# EAGLE library part CAT5113 (library cat5113)
ON Semi: CAT5113 100‐tap Non-volatile, 10nA, 100kΩ, Digital Potentiometer (POT) The CAT5113 is a single digital POT designed as an electronic replacement for mechanical potentiometers. Ideal for automated adjustments on high volume production lines, they are also well suited for applications where equipment requiring periodic adjustment is either difficult to access or located in a hazardous or remote environment. The CAT5113 contains a 100-tap series resistor array connected between two terminals RH and RL. An up/down counter and decoder that are controlled by three input pins, determines which tap is connected to the wiper, RW. The wiper setting, stored in nonvolatile memory, is not lost when the device is powered down and is automatically reinstated when power is returned. The wiper can be adjusted to test new system values without affecting the stored setting. Wiper-control of the CAT5113 is accomplished with three input control pins, CS, U/D, and INC. The INC input increments the wiper in the direction which is determined by the logic state of the U/D input. The CS input is used to select the device and also store the wiper position prior to power down.The digital POT can be used as a three-terminal resistive divider or as a two-terminal variable resistor.
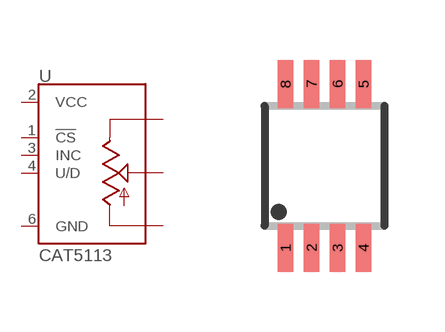
[diagram p0: symbol with the pads of MSOP8; footprint MSOP8]

Designator prefix -

## CAT5113  [MSOP8]
1  !CS
2  VCC
3  INC
4  U/D
5  RH  pas
6  GND
7  RWB  pas
8  RL  pas

## Footprint MSOP8 (pad centres in mm)
MSOP8
smd 0.38 x 1.2: 1 -0.975,-2.05; 2 -0.325,-2.05; 3 0.325,-2.05; 4 0.975,-2.05; 5 0.975,2.05; 6 0.325,2.05; 7 -0.325,2.05; 8 -0.975,2.05